# Altium footprint library 基础元器件.PcbLib: 24 footprints (part 2 of 2)
Each footprint in its own frame and in the unit in brackets; x right, y up, seen from the top. Pads: shape width x height; smd on the part's side, far side on the other; paste and mask are expansions set on the pad; w line width, h text height; cw(c..) or ccw(c..) is an arc to the next point about the centre after c.
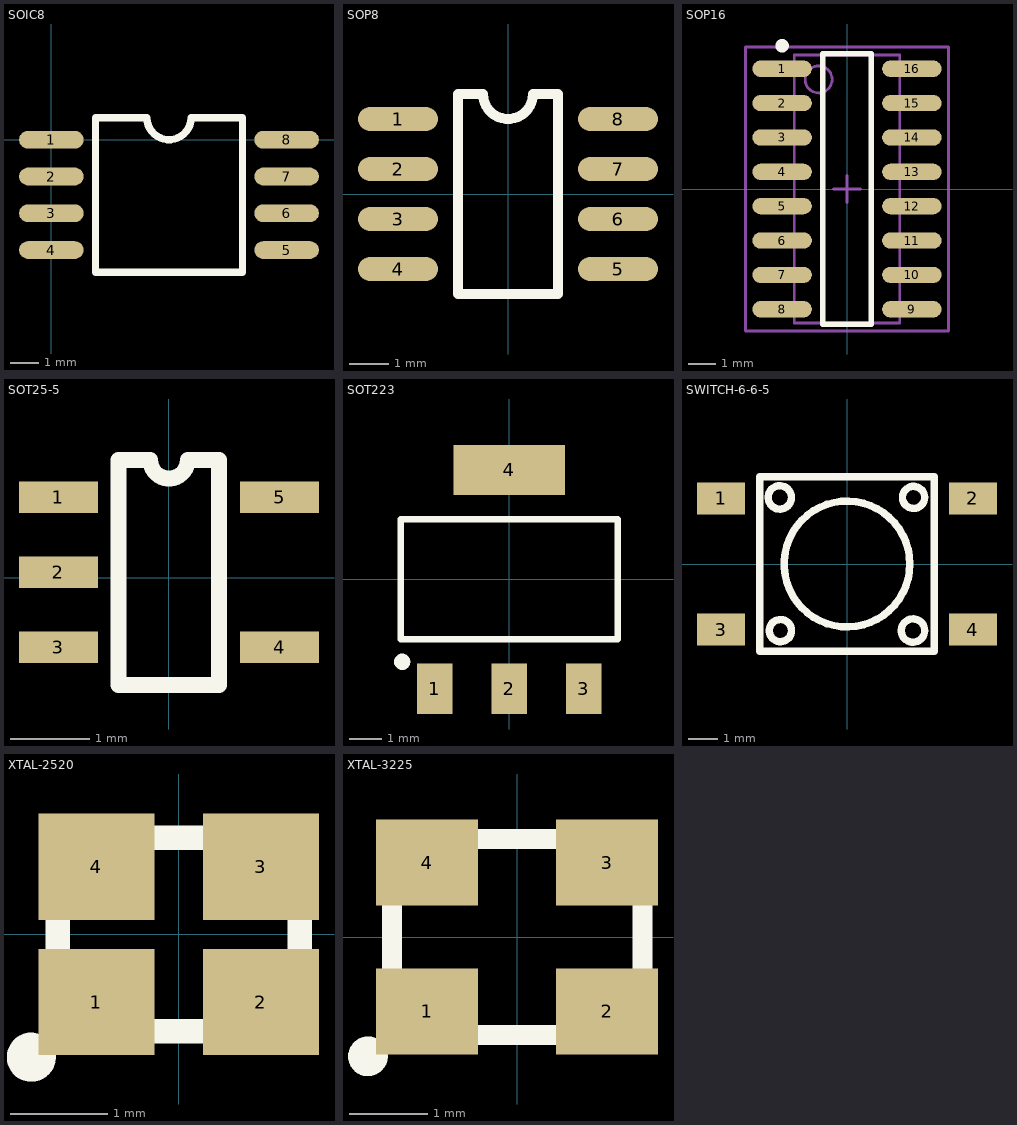
[diagram p1: the footprints below, top view; thin cyan lines are the x and y axes]

## SOIC8 [mil]
pads (8):
  oval 88x24 smd: 1(0,0) 2(0,-50) 3(0,-100) 4(0,-150) 5(320,-150) 6(320,-100) 7(320,-50) 8(320,0)
Top Overlay:
  lines w10: 60,-180 260,-180 260,30 190,30 cw(c160,30) 130,30 60,30 60,-180
3D body: height 90.55, standoff -0.78, extent -5.2,-180.9 325.21,30.91

## SOP8 [mil]
pads (8):
  oval 80x24 smd: 1(-110,75) 2(-110,25) 3(-110,-25) 4(-110,-75) 5(110,-75) 6(110,-25) 7(110,25) 8(110,75)
Top Overlay:
  lines w10: -50,-100 -50,100 -25,100 ccw(c0,100) 25,100 50,100 50,-100 -50,-100
3D body: height 73.87, standoff -1.02, extent -124.77,-98.25 124.78,98.75

## SOP16 [mm]
height 1.5
pads (16):
  oval 2.2x0.6 smd: 1(-2.4,4.445) 2(-2.4,3.175) 3(-2.4,1.905) 4(-2.4,0.635) 5(-2.4,-0.635) 6(-2.4,-1.905) 7(-2.4,-3.175) 8(-2.4,-4.445) 9(2.4,-4.445) 10(2.4,-3.175) 11(2.4,-1.905) 12(2.4,-0.635) 13(2.4,0.635) 14(2.4,1.905) 15(2.4,3.175) 16(2.4,4.445)
Top Overlay:
  circle w0.25: c-2.4,5.295 r0.125
  lines w0.2: -0.9,-5 0.9,-5 0.9,5 -0.9,5 -0.9,-5
Mechanical 13:
  circle w0.1: c-1.05,4.05 r0.5
  lines w0.1: -1.95,-4.95 1.95,-4.95 1.95,4.95 -1.95,4.95 -1.95,-4.95
Mechanical 15:
  lines w0.1: -0.5,0 0.5,0 ; 0,-0.5 0,0.5 ; -3.75,-5.25 3.75,-5.25 3.75,5.25 -3.75,5.25 -3.75,-5.25
3D body: height 1.5, standoff 0, extent -1.95,-4.95 1.95,4.95

## SOT25-5 [mm]
pads (5):
  rect 1x0.4 smd: 1(-1.397,1.016) 2(-1.397,0.066) 3(-1.397,-0.884) 4(1.403,-0.884) 5(1.403,1.016)
Top Overlay:
  lines w0.2: -0.635,-1.359 0.635,-1.359 0.635,1.491 0.24,1.491 cw(c0.003,1.491) -0.235,1.491 -0.635,1.491 -0.635,-1.359

## SOT223 [mm]
height 1.8
pads (4):
  rect 1.1x1.55 smd: 1(-2.3,-3.375) 2(0,-3.375) 3(2.3,-3.375)
  rect 3.45x1.55 smd: 4(0,3.375)
Top Overlay:
  circle w0.25: c-3.3,-2.54 r0.125
  lines w0.2: -3.35,-1.85 3.35,-1.85 3.35,1.85 -3.35,1.85 -3.35,-1.85
3D body: height 0.3, standoff 0, extent 1.905,-3.937 2.794,-2.032
3D body: height 0.3, standoff 0, extent -0.508,-3.937 0.381,-2.032
3D body: height 0.3, standoff 0, extent -2.794,-3.937 -1.905,-2.032
3D body: height 0.3, standoff 0, extent -1.651,2.159 1.651,3.429
3D body: height 0.8, standoff 0, extent -3.302,-2.032 3.302,2.159

## SWITCH-6-6-5 [mm] "贴片 轻触开关 4Pin"
height 3.5
pads (4):
  rect 1.65x1.1 smd: 1(-4.325,2.25) 2(4.325,2.25) 3(-4.325,-2.25) 4(4.325,-2.25)
Top Overlay:
  circle w0.254: c2.286,2.286 r0.381
  circle w0.254: c2.265,-2.286 r0.402
  circle w0.254: c-2.286,-2.286 r0.381
  circle w0.254: c-2.307,2.286 r0.402
  circle w0.254: c0,0 r2.159
  lines w0.254: -3,-3 -3,3 3,3 3,-3 -3,-3

## XTAL-2520 [mm]
height 0.55
pads (4):
  rect 1.2x1.1 smd: 1(-0.85,-0.7) 2(0.85,-0.7) 3(0.85,0.7) 4(-0.85,0.7)
Top Overlay:
  circle w0.254: c-1.524,-1.27 r0.127
  lines w0.254: -1.25,-1 1.25,-1 1.25,1 -1.25,1 -1.25,-1

## XTAL-3225 [mm] "3225 贴片 无源晶振 12M 4Pin"
height 0.7
pads (4):
  rect 1.3x1.1 smd: 1(-1.15,-0.95) 2(1.15,-0.95) 3(1.15,0.95) 4(-1.15,0.95)
Top Overlay:
  circle w0.254: c-1.905,-1.524 r0.127
  lines w0.254: -1.6,-1.25 -1.6,1.25 1.6,1.25 1.6,-1.25 -1.6,-1.25